# Altium footprint library ESP32.PcbLib: 4 footprints
Each footprint in its own frame and in the unit in brackets; x right, y up, seen from the top. Pads: shape width x height; smd on the part's side, far side on the other; paste and mask are expansions set on the pad; w line width, h text height; cw(c..) or ccw(c..) is an arc to the next point about the centre after c.
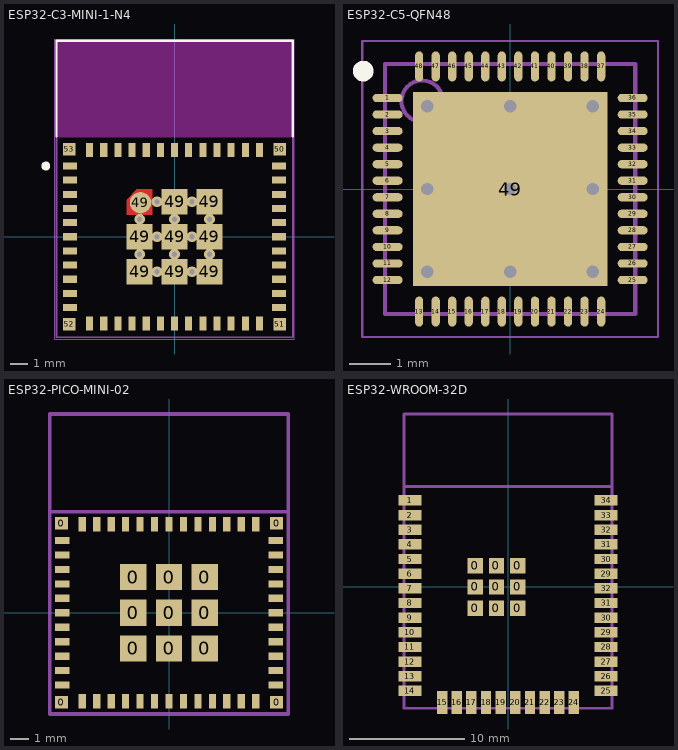
[diagram p0: the footprints below, top view; thin cyan lines are the x and y axes]

## ESP32-C3-MINI-1-N4 [mm]
height 5.6
pads (61):
  rect 0.8x0.4 smd paste+0 mask+0: 1(-5.9,4) 2(-5.9,3.2) 3(-5.9,2.4) 4(-5.9,1.6) 5(-5.9,0.8) 6(-5.9,0) 7(-5.9,-0.8) 8(-5.9,-1.6) 9(-5.9,-2.4) 10(-5.9,-3.2) 11(-5.9,-4) 25(5.9,-4) 26(5.9,-3.2) 27(5.9,-2.4) 28(5.9,-1.6) 29(5.9,-0.8) 30(5.9,0) 31(5.9,0.8) 32(5.9,1.6) 33(5.9,2.4) 34(5.9,3.2) 35(5.9,4)
  rect 0.4x0.8 smd paste+0 mask+0: 12(-4.8,-4.9) 13(-4,-4.9) 14(-3.2,-4.9) 15(-2.4,-4.9) 16(-1.6,-4.9) 17(-0.8,-4.9) 18(0,-4.9) 19(0.8,-4.9) 20(1.6,-4.9) 21(2.4,-4.9) 22(3.2,-4.9) 23(4,-4.9) 24(4.8,-4.9) 36(4.8,4.9) 37(4,4.9) 38(3.2,4.9) 39(2.4,4.9) 40(1.6,4.9) 41(0.8,4.9) 42(0,4.9) 43(-0.8,4.9) 44(-1.6,4.9) 45(-2.4,4.9) 46(-3.2,4.9) 47(-4,4.9) 48(-4.8,4.9)
  rect 1.45x1.45 smd paste+0 mask+0: 49(-1.975,-1.975) 49(-1.975,0) 49(0,-1.975) 49(0,0) 49(0,1.975) 49(1.975,-1.975) 49(1.975,0) 49(1.975,1.975)
  round 1.207 smd paste+0 mask+0: 49(-1.926,1.926)
  rect 0.7x0.7 smd paste+0 mask+0: 50(5.95,4.95) 51(5.95,-4.95) 52(-5.95,-4.95) 53(-5.95,4.95)
via -1.975,0.988 diameter 0.6 hole 0.3
via 0,0.988 diameter 0.6 hole 0.3
via 1.975,0.988 diameter 0.6 hole 0.3
via -1.975,-0.988 diameter 0.6 hole 0.3
via 0,-0.988 diameter 0.6 hole 0.3
via 1.975,-0.988 diameter 0.6 hole 0.3
via -0.987,-1.975 diameter 0.6 hole 0.3
via -0.988,0 diameter 0.6 hole 0.3
via -0.988,1.975 diameter 0.6 hole 0.3
via 0.987,-1.975 diameter 0.6 hole 0.3
via 0.988,0 diameter 0.6 hole 0.3
via 0.988,1.975 diameter 0.6 hole 0.3
Top Layer:
  region: -2.7,1.25 -2.7,2.1 -2.1,2.7 -1.25,2.7 -1.25,1.25
Top Overlay:
  circle w0.25: c-7.275,4 r0.125
  lines w0.127: -6.675,5.675 -6.675,11.075 6.675,11.075 6.675,5.675
Keep-Out Layer:
  rectangle: -6.6,5.6 6.6,11
Top Courtyard:
  lines w0.05: -6.775,-5.775 6.775,-5.775 6.775,11.175 -6.775,11.175 -6.775,-5.775
Top Assembly:
  lines w0.1: -6.675,-5.675 6.675,-5.675 6.675,11.075 -6.675,11.075 -6.675,-5.675
  text ".Designator" at 1.657,3.53 h1
Top Component Center:
  lines w0.1: -0.5,0 0.5,0 ; 0,-0.5 0,0.5
3D body "UNK_Espressif_Systems_ESP32-C3-MINI-1-N4_eec.STEP": height 0.25, standoff 0, extent -6.775,-5.775 6.775,11.175

## ESP32-C5-QFN48 [mm] "QFN, 48-Leads, Body 6.00x6.00mm, Pitch 0.40mm, Thermal Pad 4.70x4.70mm, IPC Medium Density"
height 0.9
pads (49):
  oval 0.725x0.2 smd: 1(-2.963,2.2) 2(-2.963,1.8) 3(-2.963,1.4) 4(-2.963,1) 5(-2.963,0.6) 6(-2.963,0.2) 7(-2.963,-0.2) 8(-2.963,-0.6) 9(-2.963,-1) 10(-2.963,-1.4) 11(-2.963,-1.8) 12(-2.963,-2.2) 25(2.962,-2.2) 26(2.962,-1.8) 27(2.962,-1.4) 28(2.962,-1) 29(2.962,-0.6) 30(2.962,-0.2) 31(2.962,0.2) 32(2.962,0.6) 33(2.962,1) 34(2.962,1.4) 35(2.962,1.8) 36(2.962,2.2)
  oval 0.2x0.725 smd: 13(-2.2,-2.962) 14(-1.8,-2.962) 15(-1.4,-2.962) 16(-1,-2.962) 17(-0.6,-2.962) 18(-0.2,-2.962) 19(0.2,-2.962) 20(0.6,-2.962) 21(1,-2.962) 22(1.4,-2.962) 23(1.8,-2.962) 24(2.2,-2.962) 37(2.2,2.963) 38(1.8,2.963) 39(1.4,2.963) 40(1,2.963) 41(0.6,2.963) 42(0.2,2.963) 43(-0.2,2.963) 44(-0.6,2.963) 45(-1,2.963) 46(-1.4,2.963) 47(-1.8,2.963) 48(-2.2,2.963)
  rect 4.7x4.7 smd paste-2.35: 49(0,0)
via -2,2 diameter 0.6 hole 0.3
via 2,2 diameter 0.6 hole 0.3
via 2,-2 diameter 0.6 hole 0.3
via -2,-2 diameter 0.6 hole 0.3
via 0,-2 diameter 0.6 hole 0.3
via -2,0 diameter 0.6 hole 0.3
via 0,0 diameter 0.6 hole 0.3
via 2,0 diameter 0.6 hole 0.3
via 0,2 diameter 0.6 hole 0.3
Top Overlay:
  circle w0.25: c-3.552,2.85 r0.125
Top Paste:
  rectangle: -1.774,0.288 -0.288,1.774
  rectangle: -1.774,-1.774 -0.288,-0.288
  rectangle: 0.288,0.288 1.774,1.774
  rectangle: 0.288,-1.774 1.774,-0.288
Top Courtyard:
  lines w0.05: -3.575,-3.575 -3.575,3.575 3.575,3.575 3.575,-3.575 -3.575,-3.575
Top Assembly:
  circle w0.1: c-2.125,2.125 r0.5
  lines w0.1: -3.025,-3.025 -3.025,3.025 3.025,3.025 3.025,-3.025 -3.025,-3.025
Top Component Center:
  lines w0.1: -0.5,0 0.5,0 ; 0,-0.5 0,0.5
3D body: height 0.9, standoff 0.05, extent -3,-3 3,3

## ESP32-PICO-MINI-02 [mm] "ESP32 Pico Mini Module"
height 2.4
pads (61):
  rect 0.7x0.7 smd: 0(-5.95,-4.95) 0(-5.95,4.95) 0(5.95,-4.95) 0(5.95,4.95)
  rect 0.4x0.8 smd: 0(-4.8,4.9) 0(-4,4.9) 0(-3.2,4.9) 0(-2.4,4.9) 0(-1.6,4.9) 0(-0.8,4.9) 0(0,4.9) 0(0.8,4.9) 0(1.6,4.9) 0(2.4,4.9) 0(3.2,4.9) 0(4,4.9) 0(4.8,4.9) 12(-4.8,-4.9) 13(-4,-4.9) 14(-3.2,-4.9) 15(-2.4,-4.9) 16(-1.6,-4.9) 17(-0.8,-4.9) 18(0,-4.9) 19(0.8,-4.9) 20(1.6,-4.9) 21(2.4,-4.9) 22(3.2,-4.9) 23(4,-4.9) 24(4.8,-4.9)
  rect 1.45x1.45 smd: 0(-1.975,-1.975) 0(-1.975,0) 0(-1.975,1.975) 0(0,-1.975) 0(0,0) 0(0,1.975) 0(1.975,-1.975) 0(1.975,0) 0(1.975,1.975)
  rect 0.8x0.4 smd: 1(-5.9,4) 2(-5.9,3.2) 3(-5.9,2.4) 4(-5.9,1.6) 5(-5.9,0.8) 6(-5.9,0) 7(-5.9,-0.8) 8(-5.9,-1.6) 9(-5.9,-2.4) 10(-5.9,-3.2) 11(-5.9,-4) 25(5.9,-4) 26(5.9,-3.2) 27(5.9,-2.4) 28(5.9,-1.6) 29(5.9,-0.8) 30(5.9,0) 31(5.9,0.8) 32(5.9,1.6) 33(5.9,2.4) 34(5.9,3.2) 35(5.9,4)
Mechanical 15:
  lines w0.2: -6.6,5.6 6.6,5.6 ; -6.6,-5.6 6.6,-5.6 6.6,11 -6.6,11 -6.6,-5.6
3D body "step_temp.STEP": height 2.55, standoff 0, extent -6.6,-5.6 6.6,11

## ESP32-WROOM-32D [mm]
height 3.2
pads (47):
  rect 1.33x1.33 smd: 0(-2.835,-1.835) 0(-2.835,0) 0(-2.835,1.835) 0(-1,-1.835) 0(-1,0) 0(-1,1.835) 0(0.835,-1.835) 0(0.835,0) 0(0.835,1.835)
  rect 2x0.9 smd: 1(-8.5,7.5) 2(-8.5,6.23) 3(-8.5,4.96) 4(-8.5,3.69) 5(-8.5,2.42) 6(-8.5,1.15) 7(-8.5,-0.12) 8(-8.5,-1.39) 9(-8.5,-2.66) 10(-8.5,-3.93) 11(-8.5,-5.2) 12(-8.5,-6.47) 13(-8.5,-7.74) 14(-8.5,-9.01) 25(8.5,-9.01) 26(8.5,-7.74) 27(8.5,-6.47) 28(8.5,-5.2) 29(8.5,-3.93) 29(8.5,1.15) 30(8.5,-2.66) 30(8.5,2.42) 31(8.5,-1.39) 31(8.5,3.69) 32(8.5,-0.12) 32(8.5,4.96) 33(8.5,6.23) 34(8.5,7.5)
  rect 0.9x2 smd: 15(-5.715,-10.01) 16(-4.445,-10.01) 17(-3.175,-10.01) 18(-1.905,-10.01) 19(-0.635,-10.01) 20(0.635,-10.01) 21(1.905,-10.01) 22(3.175,-10.01) 23(4.445,-10.01) 24(5.715,-10.01)
Mechanical 11:
  lines w0.254: -9,8.69 9,8.69 ; -9,-10.51 9,-10.51 9,14.99 -9,14.99 -9,-10.51